# Altium schematic symbol library TPS54494RSAR.SchLib: 1 symbol
Pins are listed as number, name and electrical type; pins without a type are passive.

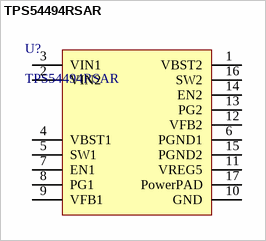
[diagram p0: symbol TPS54494RSAR]

## TPS54494RSAR
designator U?
IC REG BUCK SYNC ADJ 4A/2A 16QFN; Manufacturer: Texas Instruments; Part Name: QFN65P500X500X100-16+T270X270.PcbLib; Number of Outputs: 2; Output Voltage: 7V; Min Input Voltage: 4.5V; Max Input Voltage: 18V; Output Current: 2A; Min Output Voltage: 760mV; Switching Frequency: 700kHz; Synchronous Rectifier: Yes; Quiescent Current: 1.2mA; Output Type: Adjustable; Output Configuration: Positive; Supplier 1: Mouser; PN: TPS54494RSAR; RoHS: Yes; Category: Voltage Regulators - Switching; Stock 1: 2780; Mount: Surface Mount; Case/Package: QFN; Number of Pins: 16; Min Operating Temperature: -40°C; Max Operating Temperature: 85°C; Package Quantity: 3000; Packaging: Tape and Reel; Min Supply Voltage: 4.5V; Max Output Voltage: 7V; Operating Supply Voltage: 18V; Radiation Hardening: No; Lead Free: Lead Free; RoHS Compliant: Yes; ComponentLink1URL: https://datasheet.ciiva.com/30031/tps54494-30031585.pdf?src-supplier=Avnet; ComponentLink1Description: https://datasheet.ciiva.com/30031/tps54494-30031585.pdf?src-supplier=Avnet; Supplier Part Number 1: 595-TPS54494RSAR; Footprint Name: QFN65P500X500X100-16+T270X270
footprint QFN65P500X500X100-16+T270X270 (Footprint for TPS54494RSAR Dual Channel Synchronous Step-Down Switcher with Integrated FET)
pins: 1 VBST2, 2 VIN2, 3 VIN1, 4 VBST1, 5 SW1, 6 PGND1, 7 EN1, 8 PG1, 9 VFB1, 10 GND, 11 VREG5, 12 VFB2, 13 PG2, 14 EN2, 15 PGND2, 16 SW2, 17 PowerPAD